# EAGLE library part MAX7219CWGT (library MAX7219CWGT)
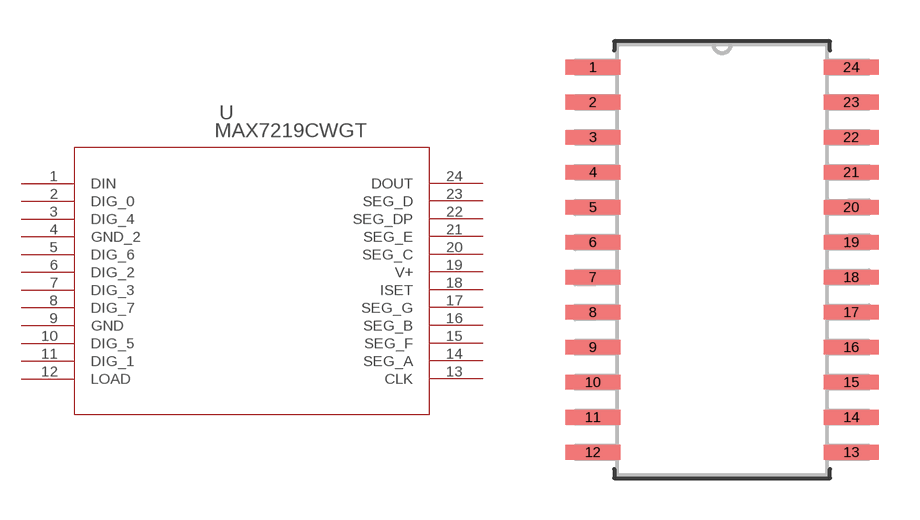
[diagram p0: symbol with the pads of 21-0042B_24; footprint 21-0042B_24]

Designator prefix U

## MAX7219CWGT (MANUFACTURER_PART_NUMBER: max7219cwg+t; VENDOR: MAXIM)  [21-0042B_24]
1  DIN  in
2  DIG_0  pas
3  DIG_4  pas
4  GND_2  pwr
5  DIG_6  pas
6  DIG_2  pas
7  DIG_3  pas
8  DIG_7  pas
9  GND  pwr
10  DIG_5  pas
11  DIG_1  pas
12  LOAD  in
13  CLK  in
14  SEG_A  pas
15  SEG_F  pas
16  SEG_B  pas
17  SEG_G  pas
18  ISET  pas
19  V+  pwr
20  SEG_C  pas
21  SEG_E  pas
22  SEG_DP  pas
23  SEG_D  pas
24  DOUT  out

## Footprint 21-0042B_24 (pad centres in mm)
smd 1.981 x 0.533: 1 -4.686,6.985; 2 -4.686,5.715; 3 -4.686,4.445; 4 -4.686,3.175; 5 -4.686,1.905; 6 -4.686,0.635; 7 -4.686,-0.635; 8 -4.686,-1.905; 9 -4.686,-3.175; 10 -4.686,-4.445; 11 -4.686,-5.715; 12 -4.686,-6.985; 13 4.686,-6.985; 14 4.686,-5.715; 15 4.686,-4.445; 16 4.686,-3.175; 17 4.686,-1.905; 18 4.686,-0.635; 19 4.686,0.635; 20 4.686,1.905; 21 4.686,3.175; 22 4.686,4.445; 23 4.686,5.715; 24 4.686,6.985